# Altium schematic symbol library Power_Management.SchLib: 221 symbols (part 2 of 2)
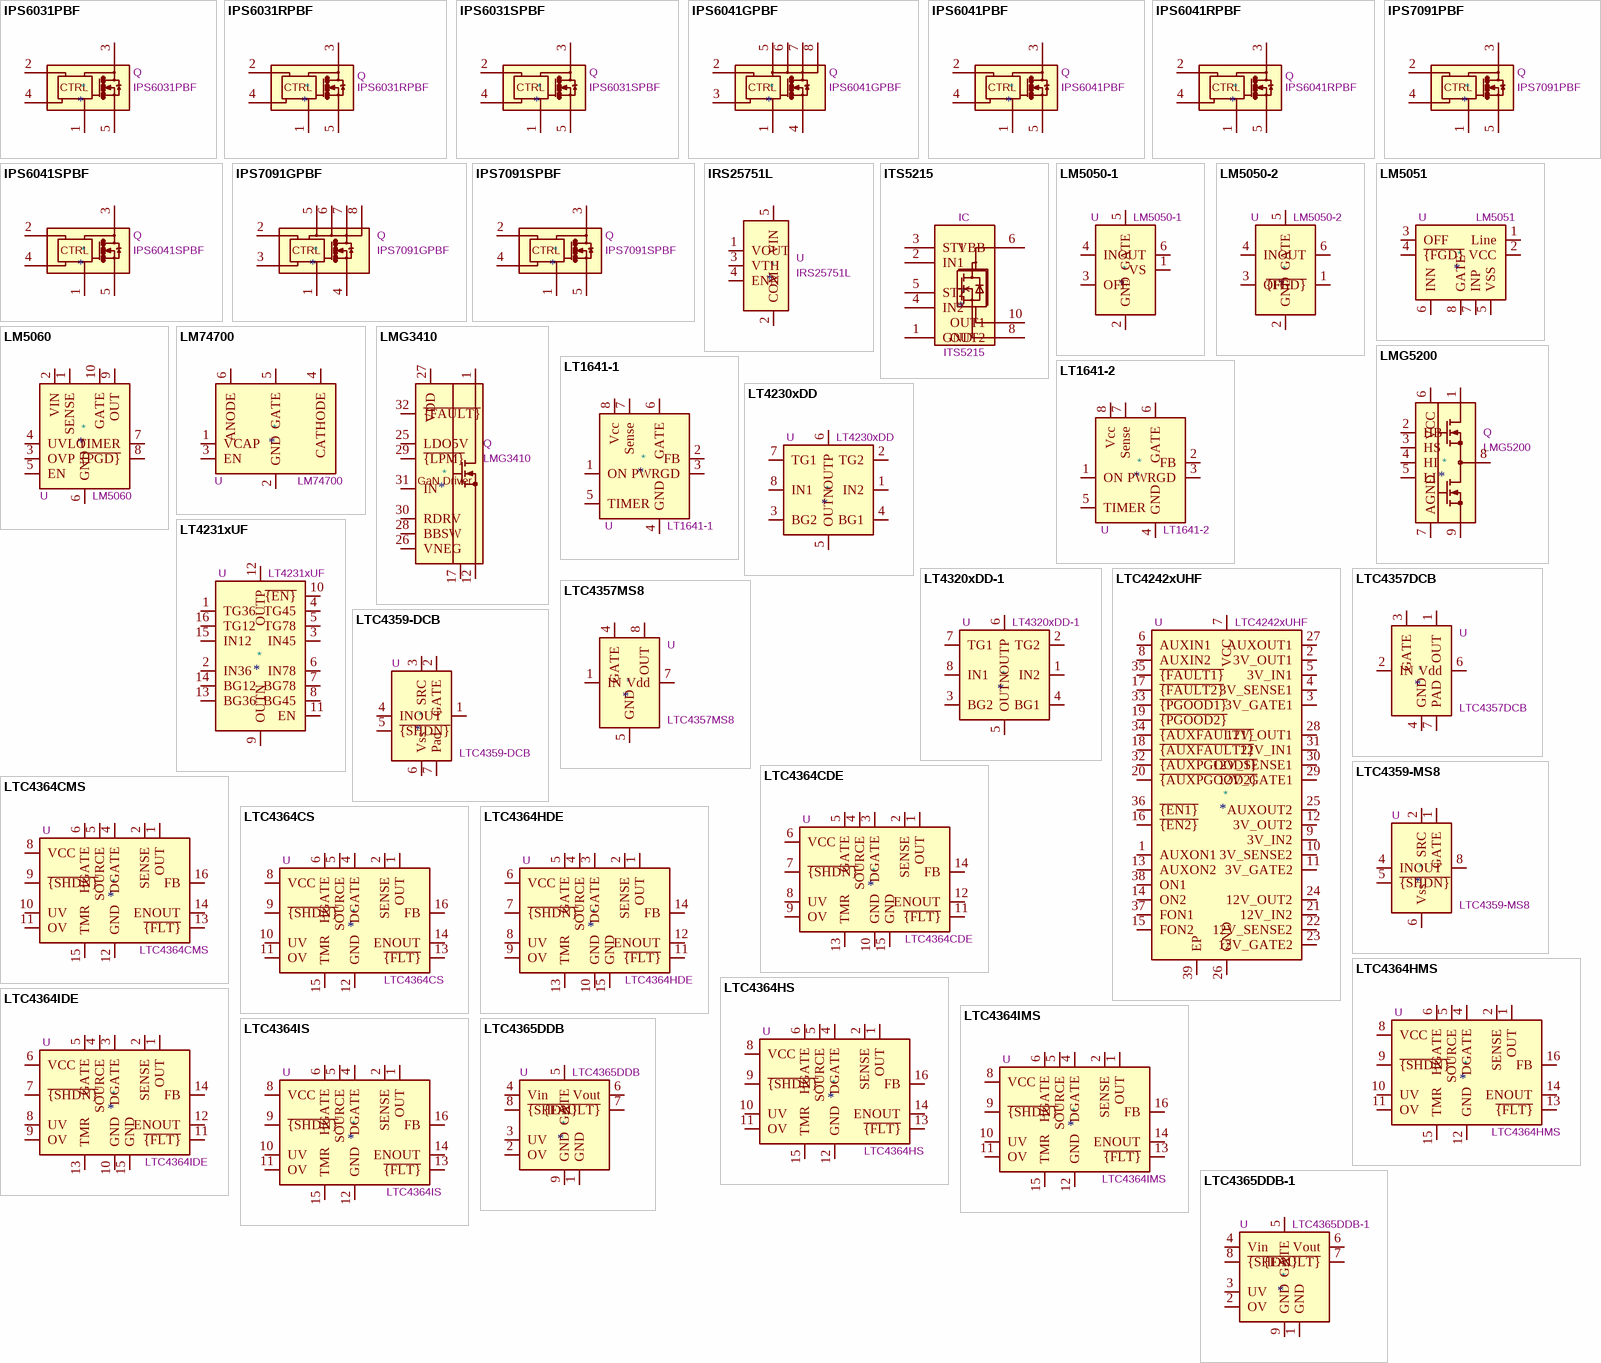
[diagram p6: symbols IPS6031PBF to LTC4365DDB-1]

## IPS7091PBF
designator *  value IPS7091PBF  Reference: Q
ki_keywords: Intelligent Power Switch High Side MOSFET; ki_description: 70V, 5A, Intelligent Power Switch High Side, TO-220-5; ki_fp_filters: TO?220*; Footprint: Package_TO_SOT_THT:TO-220-5_Vertical; Datasheet: http://www.irf.com/product-info/datasheets/data/ips7091.pdf
pins: 1 GND, 2 IN, 3 VCC, 4 DG, 5 OUT
text: CTRL

## IPS7091SPBF
designator *  value IPS7091SPBF  Reference: Q
ki_keywords: Intelligent Power Switch High Side MOSFET; ki_description: 70V, 5A, Intelligent Power Switch High Side, D2-PAK 5pin; ki_fp_filters: TO?263*; Footprint: Package_TO_SOT_SMD:TO-263-5_TabPin3; Datasheet: http://www.irf.com/product-info/datasheets/data/ips7091.pdf
pins: 1 GND, 2 IN, 3 VCC, 4 DG, 5 OUT
text: CTRL

## IRS25751L
designator *  value IRS25751L  Reference: U
ki_keywords: start up; ki_description: High-Voltage Start-Up IC, 480V, SOT-23-5; ki_fp_filters: SOT?23*; Footprint: Package_TO_SOT_SMD:SOT-23-5; Datasheet: https://www.infineon.com/dgdl/irs25751lpbf.pdf?fileId=5546d462533600a40153567b31da2837
pins: 1 VOUT, 2 COM, 3 VTH, 4 ENN, 5 VIN

## ITS5215
designator *  value ITS5215  Reference: IC
ki_keywords: High_Side_Switch Power; ki_description: Smart Dual Channel High Side Powertrain Switch (90mOhm); ki_fp_filters: *PG?DSO*; Footprint: Package_SO:Infineon_PG-DSO-12-9_ThermalVias; Datasheet: http://www.infineon.com/dgdl/Infineon-ITS5215L-DS-v01_01-en.pdf?fileId=db3a304412b407950112b428dba73e98
pins: 1 GND, 2 IN1, 3 ST1, 4 IN2, 5 ST2, 6 VBB, 7 NC hidden, 8 OUT2, 9 NC hidden, 10 OUT1, 11 NC hidden, 12 VBB hidden, 13 VBB hidden

## LM5050-1
designator *  value LM5050-1  Reference: U
ki_keywords: positive high-side or-ing ideal-diode; ki_description: High side OR-ing FET controller, 5V to 75V operation, TSOT-23-6; ki_fp_filters: TSOT?23*; Footprint: Package_TO_SOT_SMD:TSOT-23-6; Datasheet: http://www.ti.com/lit/ds/symlink/lm5050-1-q1.pdf
pins: 1 VS, 2 GND, 3 OFF, 4 IN, 5 GATE, 6 OUT

## LM5050-2
designator *  value LM5050-2  Reference: U
ki_keywords: positive high-side or-ing ideal-diode; ki_description: High side OR-ing FET controller, 6V to 75V operation, TSOT-23-6; ki_fp_filters: TSOT?23*; Footprint: Package_TO_SOT_SMD:TSOT-23-6; Datasheet: http://www.ti.com/lit/ds/symlink/lm5050-2.pdf
pins: 1 ~{{FGD}}, 2 GND, 3 OFF, 4 IN, 5 GATE, 6 OUT

## LM5051
designator *  value LM5051  Reference: U
ki_keywords: negative low-side or-ing ideal-diode; ki_description: Low side OR-ing FET controller, -6V to -100V, SOIC-8; ki_fp_filters: SOIC*3.9x4.9mm*P1.27mm*; Footprint: Package_SO:SOIC-8_3.9x4.9mm_P1.27mm; Datasheet: http://www.ti.com/lit/ds/symlink/lm5051.pdf
pins: 1 Line, 2 VCC, 3 OFF, 4 ~{{FGD}}, 5 VSS, 6 INN, 7 INP, 8 GATE

## LM5060
designator *  value LM5060  Reference: U
ki_keywords: high-voltage mosfet-driver hot-swap; ki_description: High side protection controller, +5.5V to +65V operation, VSSOP-10 package; ki_fp_filters: *SOP*3x3mm*P0.5mm*; Footprint: Package_SO:MSOP-10_3x3mm_P0.5mm; Datasheet: http://www.ti.com/lit/ds/symlink/lm5060.pdf
pins: 1 SENSE, 2 VIN, 3 OVP, 4 UVLO, 5 EN, 6 GND, 7 TIMER, 8 ~{{PGD}}, 9 OUT, 10 GATE

## LM74700
designator *  value LM74700  Reference: U
ki_keywords: ideal-diode or-ing; ki_description: Low Iq reverse battery protection ideal diode controller, SOT-23-6; ki_fp_filters: SOT?23*; Footprint: Package_TO_SOT_SMD:SOT-23-6; Datasheet: http://www.ti.com/lit/gpn/LM74700-Q1
pins: 1 VCAP, 2 GND, 3 EN, 4 CATHODE, 5 GATE, 6 ANODE

## LMG3410
designator *  value LMG3410  Reference: Q
ki_keywords: N-Channel GaN MOSFET; ki_description: 600-V 12-A Integrated GaN Power Stage, RWH0032A; ki_fp_filters: Texas*RWH0032A*; Footprint: Package_DFN_QFN:Texas_RWH0032A_ThermalVias; Datasheet: http://www.ti.com/lit/ds/snosd10c/snosd10c.pdf
pins: 1, 2 hidden, 3 hidden, 4 hidden, 5 hidden, 6 hidden, 7 hidden, 8 hidden, 9 hidden, 10 hidden, 11 hidden, 12, 13 hidden, 14 hidden, 15 hidden, 16 hidden, 17, 18 hidden, 19 hidden, 20 hidden, 21 hidden, 22 hidden, 23 hidden, 24 hidden, 25 LDO5V, 26 VNEG, 27 VDD, 28 BBSW, 29 ~{{LPM}}, 30 RDRV, 31 IN, 32 ~{{FAULT}}, 33 hidden
text: GaN Driver

## LMG5200
designator *  value LMG5200  Reference: Q
ki_keywords: Dual N-Channel GaN MOSFET; ki_description: 80-V, 10-A GaN Half-Bridge Power Stage, MOF0009A; ki_fp_filters: Texas*MOF0009A*; Footprint: Package_DFN_QFN:Texas_MOF0009A; Datasheet: http://www.ti.com/lit/ds/symlink/lmg5200.pdf
pins: 1, 2 HB, 3 HS, 4 HI, 5 LI, 6 VCC, 7 AGND, 8, 9

## LT1641-1
designator *  value LT1641-1  Reference: U
ki_keywords: high-voltage hot-swap; ki_description: High voltage hot swap controller, +9V to +80V, with latching feature, SOIC-8; ki_fp_filters: SOIC*3.9x4.9mm*P1.27mm*; Footprint: Package_SO:SOIC-8_3.9x4.9mm_P1.27mm; Datasheet: https://www.analog.com/media/en/technical-documentation/data-sheets/164112fc.pdf
pins: 1 ON, 2 FB, 3 PWRGD, 4 GND, 5 TIMER, 6 GATE, 7 Sense, 8 Vcc

## LT1641-2
designator *  value LT1641-2  Reference: U
ki_keywords: high-voltage hot-swap; ki_description: High voltage hot swap controller, +9V to +80V operation, with auto-retry feature; ki_fp_filters: SOIC*3.9x4.9mm*P1.27mm*; Footprint: Package_SO:SOIC-8_3.9x4.9mm_P1.27mm; Datasheet: https://www.analog.com/media/en/technical-documentation/data-sheets/164112fc.pdf
pins: 1 ON, 2 FB, 3 PWRGD, 4 GND, 5 TIMER, 6 GATE, 7 Sense, 8 Vcc

## LT4230xDD
designator *  value LT4230xDD  Reference: U
ki_keywords: diode bridge replacement; ki_description: Ideal Diode Bridge Controller, DC to 60Hz, DFN-8; ki_fp_filters: DFN*1EP*3x3mm*P0.5mm*; Footprint: Package_DFN_QFN:DFN-8-1EP_3x3mm_P0.5mm_EP1.65x2.38mm; Datasheet: https://www.analog.com/media/en/technical-documentation/data-sheets/4320fb.pdf
pins: 1 IN2, 2 TG2, 3 BG2, 4 BG1, 5 OUTN, 6 OUTP, 7 TG1, 8 IN1, 9 OUTN hidden

## LT4231xUF
designator *  value LT4231xUF  Reference: U
ki_keywords: LTPoE++ dual diode bridge replacement; ki_description: PoE Ideal Diode Bridge Controller, QFN-16; ki_fp_filters: QFN*1EP*4x4mm*P0.65mm*; Footprint: Package_DFN_QFN:QFN-16-1EP_4x4mm_P0.65mm_EP2.15x2.15mm; Datasheet: https://www.analog.com/media/en/technical-documentation/data-sheets/4321f.pdf
pins: 1 TG36, 2 IN36, 3 IN45, 4 TG45, 5 TG78, 6 IN78, 7 BG78, 8 BG45, 9 OUTN, 10 ~{{EN}}, 11 EN, 12 OUTP, 13 BG36, 14 BG12, 15 IN12, 16 TG12, 17 OUTN hidden

## LT4320xDD-1
designator *  value LT4320xDD-1  Reference: U
ki_keywords: diode bridge replacement; ki_description: Ideal Diode Bridge Controller, DC to 600Hz, DFN-8; ki_fp_filters: DFN*1EP*3x3mm*P0.5mm*; Footprint: Package_DFN_QFN:DFN-8-1EP_3x3mm_P0.5mm_EP1.65x2.38mm; Datasheet: https://www.analog.com/media/en/technical-documentation/data-sheets/4320fb.pdf
pins: 1 IN2, 2 TG2, 3 BG2, 4 BG1, 5 OUTN, 6 OUTP, 7 TG1, 8 IN1, 9 OUTN hidden

## LTC4242xUHF
designator *  value LTC4242xUHF  Reference: U
ki_keywords: Dual-Slot PCIe; ki_description: Hot-Swap Power Controller, QFN-38; ki_fp_filters: QFN*1EP*5x7mm*P0.5mm*; Footprint: Package_DFN_QFN:QFN-38-1EP_5x7mm_P0.5mm_EP3.15x5.15mm; Datasheet: https://www.analog.com/media/en/technical-documentation/data-sheets/4242f.pdf
pins: 1 AUXON1, 2 3V_OUT1, 3 3V_GATE1, 4 3V_SENSE1, 5 3V_IN1, 6 AUXIN1, 7 VCC, 8 AUXIN2, 9 3V_IN2, 10 3V_SENSE2, 11 3V_GATE2, 12 3V_OUT2, 13 AUXON2, 14 ON2, 15 FON2, 16 ~{{EN2}}, 17 ~{{FAULT2}}, 18 ~{{AUXFAULT2}}, 19 ~{{PGOOD2}}, 20 ~{{AUXPGOOD2}}, 21 12V_IN2, 22 12V_SENSE2, 23 12V_GATE2, 24 12V_OUT2, 25 AUXOUT2, 26 GND, 27 AUXOUT1, 28 12V_OUT1, 29 12V_GATE1, 30 12V_SENSE1, 31 12V_IN1, 32 ~{{AUXPGOOD1}}, 33 ~{{PGOOD1}}, 34 ~{{AUXFAULT1}}, 35 ~{{FAULT1}}, 36 ~{{EN1}}, 37 FON1, 38 ON1, 39 EP

## LTC4357DCB
designator *  value LTC4357DCB  Reference: U
ki_keywords: ideal-diode or-ing; ki_description: Ideal diode controller, 9-80V operation, DFN-6; ki_fp_filters: DFN*1EP*3x2mm*P0.5mm*; Footprint: Package_DFN_QFN:DFN-6-1EP_3x2mm_P0.5mm_EP1.65x1.35mm; Datasheet: https://www.analog.com/media/en/technical-documentation/data-sheets/4357fd.pdf
pins: 1 OUT, 2 IN, 3 GATE, 4 GND, 5 NC hidden, 6 Vdd, 7 PAD

## LTC4357MS8
designator *  value LTC4357MS8  Reference: U
ki_keywords: ideal-diode or-ing; ki_description: Ideal diode controller, 9-80V operation, MSOP-8; ki_fp_filters: MSOP*3x3mm*P0.65mm*; Footprint: Package_SO:MSOP-8_3x3mm_P0.65mm; Datasheet: https://www.analog.com/media/en/technical-documentation/data-sheets/4357fd.pdf
pins: 1 IN, 2 NC hidden, 3 NC hidden, 4 GATE, 5 GND, 6 NC hidden, 7 Vdd, 8 OUT

## LTC4359-DCB
designator *  value LTC4359-DCB  Reference: U
ki_keywords: ideal-diode or-ing reverse-protection; ki_description: Ideal diode controller with reverse input protection, DFN-6; ki_fp_filters: DFN*1EP*3x2mm*P0.5mm*; Footprint: Package_DFN_QFN:DFN-6-1EP_3x2mm_P0.5mm_EP1.65x1.35mm; Datasheet: https://www.analog.com/media/en/technical-documentation/data-sheets/ltc4359.pdf
pins: 1 OUT, 2 GATE, 3 SRC, 4 IN, 5 ~{{SHDN}}, 6 Vss, 7 Pad

## LTC4359-MS8
designator *  value LTC4359-MS8  Reference: U
ki_keywords: ideal-diode or-ing reverse-protection; ki_description: Ideal diode controller with reverse input protection, MSOP-8; ki_fp_filters: MSOP*3x3mm*P0.65mm*; Footprint: Package_SO:MSOP-8_3x3mm_P0.65mm; Datasheet: https://www.analog.com/media/en/technical-documentation/data-sheets/ltc4359.pdf
pins: 1 GATE, 2 SRC, 3 NC hidden, 4 IN, 5 ~{{SHDN}}, 6 Vss, 7 NC hidden, 8 OUT

## LTC4364CDE
designator *  value LTC4364CDE  Reference: U
ki_keywords: ideal-diode or-ing reverse-protection undervoltage overvoltage surge-stopper; ki_description: Surge stopper with ideal diode, UV and OV protection, -40V to +80V, 0°C to +40°C, DFN-14; ki_fp_filters: DFN*3x4mm*P0.5mm*; Footprint: Package_DFN_QFN:DFN-14-1EP_3x4mm_P0.5mm_EP1.7x3.3mm; Datasheet: https://www.analog.com/media/en/technical-documentation/data-sheets/436412f.pdf
pins: 1 OUT, 2 SENSE, 3 DGATE, 4 SOURCE, 5 GATE, 6 VCC, 7 ~{{SHDN}}, 8 UV, 9 OV, 10 GND, 11 ~{{FLT}}, 12 ENOUT, 13 TMR, 14 FB, 15 GND

## LTC4364CMS
designator *  value LTC4364CMS  Reference: U
ki_keywords: ideal-diode or-ing reverse-protection undervoltage overvoltage surge-stopper; ki_description: Surge stopper with ideal diode, UV and OV protection, -40V to +80V, 0°C to +40°C, MSOP-16; ki_fp_filters: MSOP*3x4mm*P0.5mm*; Footprint: Package_SO:MSOP-16_3x4mm_P0.5mm; Datasheet: https://www.analog.com/media/en/technical-documentation/data-sheets/436412f.pdf
pins: 1 OUT, 2 SENSE, 3 NC hidden, 4 DGATE, 5 SOURCE, 6 HGATE, 7 NC hidden, 8 VCC, 9 ~{{SHDN}}, 10 UV, 11 OV, 12 GND, 13 ~{{FLT}}, 14 ENOUT, 15 TMR, 16 FB

## LTC4364CS
designator *  value LTC4364CS  Reference: U
ki_keywords: ideal-diode or-ing reverse-protection undervoltage overvoltage surge-stopper; ki_description: Surge stopper with ideal diode, UV and OV protection -40V to +80V, 0°C to +40°C, SOIC-16; ki_fp_filters: SOIC*3.9x9.9mm*P1.27mm*; Footprint: Package_SO:SOIC-16_3.9x9.9mm_P1.27mm; Datasheet: https://www.analog.com/media/en/technical-documentation/data-sheets/436412f.pdf
pins: 1 OUT, 2 SENSE, 3 NC hidden, 4 DGATE, 5 SOURCE, 6 HGATE, 7 NC hidden, 8 VCC, 9 ~{{SHDN}}, 10 UV, 11 OV, 12 GND, 13 ~{{FLT}}, 14 ENOUT, 15 TMR, 16 FB

## LTC4364HDE
designator *  value LTC4364HDE  Reference: U
ki_keywords: surge overvoltage undervoltage reverse-polarity protection diode ORing MOSFET driver; ki_description: Surge stopper with ideal diode, UV and OV protection -40V to +80V, -40°C to +125°C, DFN-14; ki_fp_filters: DFN*3x4mm*P0.5mm*; Footprint: Package_DFN_QFN:DFN-14-1EP_3x4mm_P0.5mm_EP1.7x3.3mm; Datasheet: https://www.analog.com/media/en/technical-documentation/data-sheets/436412f.pdf
pins: 1 OUT, 2 SENSE, 3 DGATE, 4 SOURCE, 5 GATE, 6 VCC, 7 ~{{SHDN}}, 8 UV, 9 OV, 10 GND, 11 ~{{FLT}}, 12 ENOUT, 13 TMR, 14 FB, 15 GND

## LTC4364HMS
designator *  value LTC4364HMS  Reference: U
ki_keywords: surge overvoltage undervoltage reverse-polarity protection diode ORing MOSFET driver; ki_description: Surge stopper with ideal diode, UV and OV protection -40V to +80V, -40°C to +125°C, MSOP-16; ki_fp_filters: MSOP*3x4mm*P0.5mm*; Footprint: Package_SO:MSOP-16_3x4mm_P0.5mm; Datasheet: https://www.analog.com/media/en/technical-documentation/data-sheets/436412f.pdf
pins: 1 OUT, 2 SENSE, 3 NC hidden, 4 DGATE, 5 SOURCE, 6 HGATE, 7 NC hidden, 8 VCC, 9 ~{{SHDN}}, 10 UV, 11 OV, 12 GND, 13 ~{{FLT}}, 14 ENOUT, 15 TMR, 16 FB

## LTC4364HS
designator *  value LTC4364HS  Reference: U
ki_keywords: surge overvoltage undervoltage reverse-polarity protection diode ORing MOSFET driver; ki_description: Surge stopper with ideal diode, UV and OV protection -40V to +80V, -40°C to +125°C, SOIC-16; ki_fp_filters: SOIC*3.9x9.9mm*P1.27mm*; Footprint: Package_SO:SOIC-16_3.9x9.9mm_P1.27mm; Datasheet: https://www.analog.com/media/en/technical-documentation/data-sheets/436412f.pdf
pins: 1 OUT, 2 SENSE, 3 NC hidden, 4 DGATE, 5 SOURCE, 6 HGATE, 7 NC hidden, 8 VCC, 9 ~{{SHDN}}, 10 UV, 11 OV, 12 GND, 13 ~{{FLT}}, 14 ENOUT, 15 TMR, 16 FB

## LTC4364IDE
designator *  value LTC4364IDE  Reference: U
ki_keywords: surge overvoltage undervoltage reverse-polarity protection diode ORing MOSFET driver; ki_description: Surge stopper with ideal diode, UV and OV protection -40V to +80V, -40°C to +85°C, DFN-14; ki_fp_filters: DFN*3x4mm*P0.5mm*; Footprint: Package_DFN_QFN:DFN-14-1EP_3x4mm_P0.5mm_EP1.7x3.3mm; Datasheet: https://www.analog.com/media/en/technical-documentation/data-sheets/436412f.pdf
pins: 1 OUT, 2 SENSE, 3 DGATE, 4 SOURCE, 5 GATE, 6 VCC, 7 ~{{SHDN}}, 8 UV, 9 OV, 10 GND, 11 ~{{FLT}}, 12 ENOUT, 13 TMR, 14 FB, 15 GND

## LTC4364IMS
designator *  value LTC4364IMS  Reference: U
ki_keywords: surge overvoltage undervoltage reverse-polarity protection diode ORing MOSFET driver; ki_description: Surge stopper with ideal diode, UV and OV protection -40V to +80V, -40°C to +85°C, MSOP-16; ki_fp_filters: MSOP*3x4mm*P0.5mm*; Footprint: Package_SO:MSOP-16_3x4mm_P0.5mm; Datasheet: https://www.analog.com/media/en/technical-documentation/data-sheets/436412f.pdf
pins: 1 OUT, 2 SENSE, 3 NC hidden, 4 DGATE, 5 SOURCE, 6 HGATE, 7 NC hidden, 8 VCC, 9 ~{{SHDN}}, 10 UV, 11 OV, 12 GND, 13 ~{{FLT}}, 14 ENOUT, 15 TMR, 16 FB

## LTC4364IS
designator *  value LTC4364IS  Reference: U
ki_keywords: surge overvoltage undervoltage reverse-polarity protection diode ORing MOSFET driver; ki_description: Surge stopper with ideal diode, UV and OV protection -40V to +80V, -40°C to +85°C, SOIC-16; ki_fp_filters: SOIC*3.9x9.9mm*P1.27mm*; Footprint: Package_SO:SOIC-16_3.9x9.9mm_P1.27mm; Datasheet: https://www.analog.com/media/en/technical-documentation/data-sheets/436412f.pdf
pins: 1 OUT, 2 SENSE, 3 NC hidden, 4 DGATE, 5 SOURCE, 6 HGATE, 7 NC hidden, 8 VCC, 9 ~{{SHDN}}, 10 UV, 11 OV, 12 GND, 13 ~{{FLT}}, 14 ENOUT, 15 TMR, 16 FB

## LTC4365DDB
designator *  value LTC4365DDB  Reference: U
ki_keywords: overvoltage undervoltage reverse-polarity protection; ki_description: UV, OV and Reverse Supply Protection Controller, 50/60Hz noise rejection, DFN-8; ki_fp_filters: DFN*1EP*2x3mm*P0.5mm*; Footprint: Package_DFN_QFN:DFN-8-1EP_2x3mm_P0.5mm_EP0.61x2.2mm; Datasheet: https://www.analog.com/media/en/technical-documentation/data-sheets/4365fa.pdf
pins: 1 GND, 2 OV, 3 UV, 4 Vin, 5 GATE, 6 Vout, 7 ~{{FAULT}}, 8 ~{{SHDN}}, 9 GND

## LTC4365DDB-1
designator *  value LTC4365DDB-1  Reference: U
ki_keywords: overvoltage undervoltage reverse-polarity protection; ki_description: UV, OV and Reverse Supply Protection Controller, 1ms fault recovery, DFN-8; ki_fp_filters: DFN*1EP*2x3mm*P0.5mm*; Footprint: Package_DFN_QFN:DFN-8-1EP_2x3mm_P0.5mm_EP0.61x2.2mm; Datasheet: https://www.analog.com/media/en/technical-documentation/data-sheets/4365fa.pdf
pins: 1 GND, 2 OV, 3 UV, 4 Vin, 5 GATE, 6 Vout, 7 ~{{FAULT}}, 8 ~{{SHDN}}, 9 GND

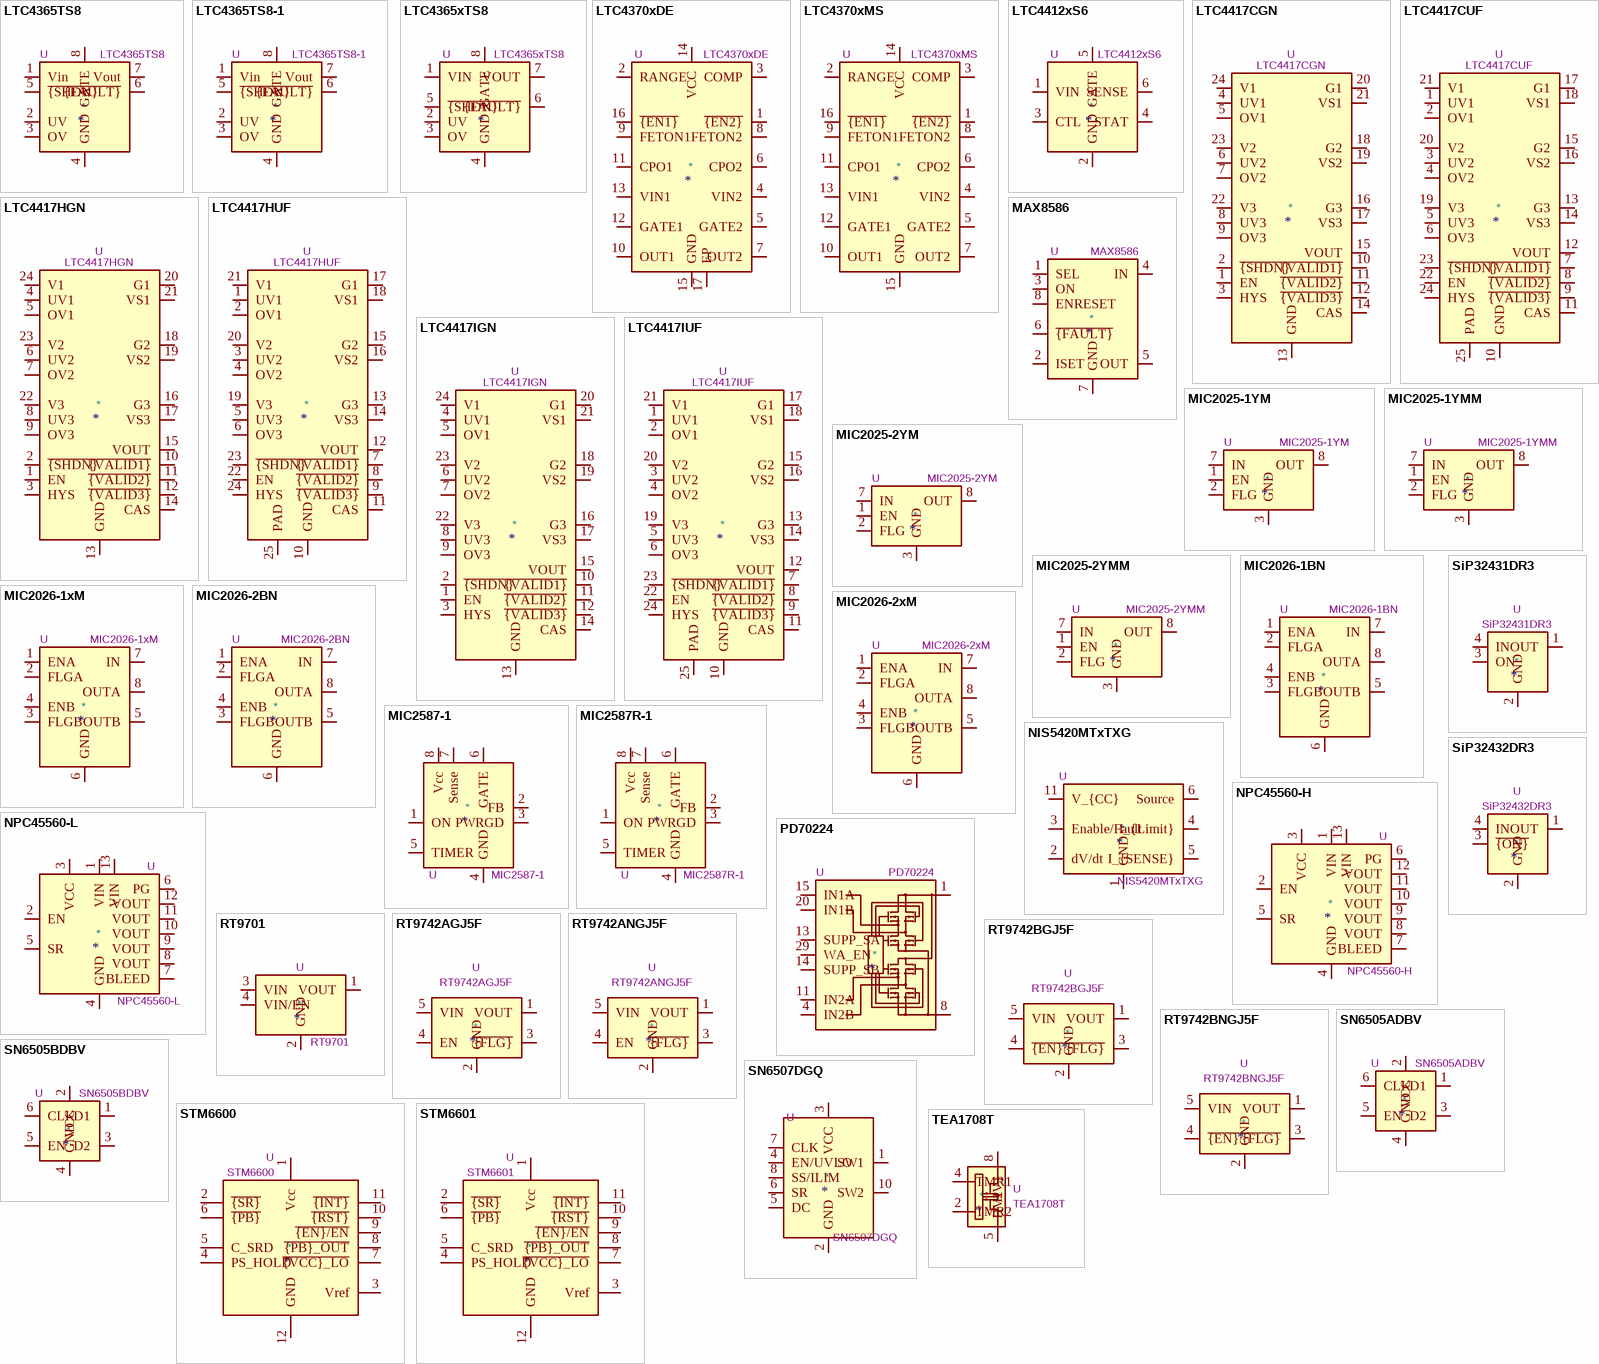
[diagram p4: symbols LTC4365TS8 to TEA1708T]

## LTC4365TS8
designator *  value LTC4365TS8  Reference: U
ki_keywords: overvoltage undervoltage reverse-polarity protection; ki_description: UV, OV and Reverse Supply Protection Controller, 50/60Hz noise rejection, TSOT23-8; ki_fp_filters: TSOT?23*; Footprint: Package_TO_SOT_SMD:TSOT-23-8; Datasheet: https://www.analog.com/media/en/technical-documentation/data-sheets/4365fa.pdf
pins: 1 Vin, 2 UV, 3 OV, 4 GND, 5 ~{{SHDN}}, 6 ~{{FAULT}}, 7 Vout, 8 GATE

## LTC4365TS8-1
designator *  value LTC4365TS8-1  Reference: U
ki_keywords: overvoltage undervoltage reverse-polarity protection; ki_description: UV, OV and Reverse Supply Protection Controller, 1ms fault recovery, TSOT23-8; ki_fp_filters: *SOT?23*; Footprint: Package_TO_SOT_SMD:TSOT-23-8; Datasheet: https://www.analog.com/media/en/technical-documentation/data-sheets/4365fa.pdf
pins: 1 Vin, 2 UV, 3 OV, 4 GND, 5 ~{{SHDN}}, 6 ~{{FAULT}}, 7 Vout, 8 GATE

## LTC4365xTS8
designator *  value LTC4365xTS8  Reference: U
ki_keywords: overvoltage undervoltage reverse-polarity protection; ki_description: UV, OV and Reverse Supply Protection Controller, 50Hz/60Hz noise rejection, TSOT-23-8; ki_fp_filters: TSOT?23*; Footprint: Package_TO_SOT_SMD:TSOT-23-8; Datasheet: https://www.analog.com/media/en/technical-documentation/data-sheets/4365fa.pdf
pins: 1 VIN, 2 UV, 3 OV, 4 GND, 5 ~{{SHDN}}, 6 ~{{FAULT}}, 7 VOUT, 8 GATE

## LTC4370xDE
designator *  value LTC4370xDE  Reference: U
ki_keywords: ideal-diode or-ing current sharing load balancing; ki_description: OR Controller Current Sharing Controller N-Channel 2:1, DFN-16; ki_fp_filters: DFN*1EP*3x4mm*P0.45mm*; Footprint: Package_DFN_QFN:DFN-16-1EP_3x4mm_P0.45mm_EP1.7x3.3mm; Datasheet: https://www.analog.com/media/en/technical-documentation/data-sheets/4370f.pdf
pins: 1 ~{{EN2}}, 2 RANGE, 3 COMP, 4 VIN2, 5 GATE2, 6 CPO2, 7 OUT2, 8 FETON2, 9 FETON1, 10 OUT1, 11 CPO1, 12 GATE1, 13 VIN1, 14 VCC, 15 GND, 16 ~{{EN1}}, 17 EP

## LTC4370xMS
designator *  value LTC4370xMS  Reference: U
ki_keywords: ideal-diode or-ing current sharing load balancing; ki_description: OR Controller Current Sharing Controller N-Channel 2:1, MSOP-16; ki_fp_filters: MSOP*3x4mm*P0.5mm*; Footprint: Package_SO:MSOP-16_3x4mm_P0.5mm; Datasheet: https://www.analog.com/media/en/technical-documentation/data-sheets/4370f.pdf
pins: 1 ~{{EN2}}, 2 RANGE, 3 COMP, 4 VIN2, 5 GATE2, 6 CPO2, 7 OUT2, 8 FETON2, 9 FETON1, 10 OUT1, 11 CPO1, 12 GATE1, 13 VIN1, 14 VCC, 15 GND, 16 ~{{EN1}}

## LTC4412xS6
designator *  value LTC4412xS6  Reference: U
ki_keywords: ideal-diode or-ing; ki_description: Low Loss PowerPath Controller, TSOT-23-6; ki_fp_filters: TSOT?23*; Footprint: Package_TO_SOT_SMD:TSOT-23-6; Datasheet: https://www.analog.com/media/en/technical-documentation/data-sheets/4412fb.pdf
pins: 1 VIN, 2 GND, 3 CTL, 4 STAT, 5 GATE, 6 SENSE

## LTC4417CGN
designator *  value LTC4417CGN  Reference: U
ki_keywords: switch power FET sequence; ki_description: Prioritized PowerPath Controller, Selects Highest Priority Supply from Three Inputs, SSOP; ki_fp_filters: SSOP-24*3.9x8.7mm*P0.635mm*; Footprint: Package_SO:SSOP-24_3.9x8.7mm_P0.635mm; Datasheet: https://www.analog.com/media/en/technical-documentation/data-sheets/4417f.pdf
pins: 1 EN, 2 ~{{SHDN}}, 3 HYS, 4 UV1, 5 OV1, 6 UV2, 7 OV2, 8 UV3, 9 OV3, 10 ~{{VALID1}}, 11 ~{{VALID2}}, 12 ~{{VALID3}}, 13 GND, 14 CAS, 15 VOUT, 16 G3, 17 VS3, 18 G2, 19 VS2, 20 G1, 21 VS1, 22 V3, 23 V2, 24 V1

## LTC4417CUF
designator *  value LTC4417CUF  Reference: U
ki_keywords: switch power FET sequence; ki_description: Prioritized PowerPath Controller, Selects Highest Priority Supply from Three Inputs, QFN; ki_fp_filters: QFN*4x4mm*P0.5mm*; Footprint: Package_DFN_QFN:QFN-24-1EP_4x4mm_P0.5mm_EP2.6x2.6mm; Datasheet: https://www.analog.com/media/en/technical-documentation/data-sheets/4417f.pdf
pins: 1 UV1, 2 OV1, 3 UV2, 4 OV2, 5 UV3, 6 OV3, 7 ~{{VALID1}}, 8 ~{{VALID2}}, 9 ~{{VALID3}}, 10 GND, 11 CAS, 12 VOUT, 13 G3, 14 VS3, 15 G2, 16 VS2, 17 G1, 18 VS1, 19 V3, 20 V2, 21 V1, 22 EN, 23 ~{{SHDN}}, 24 HYS, 25 PAD

## LTC4417HGN
designator *  value LTC4417HGN  Reference: U
ki_keywords: switch power FET sequence; ki_description: Prioritized PowerPath Controller, Selects Highest Priority Supply from Three Inputs, –40°C to 125°C, SSOP; ki_fp_filters: SSOP-24*3.9x8.7mm*P0.635mm*; Footprint: Package_SO:SSOP-24_3.9x8.7mm_P0.635mm; Datasheet: https://www.analog.com/media/en/technical-documentation/data-sheets/4417f.pdf
pins: 1 EN, 2 ~{{SHDN}}, 3 HYS, 4 UV1, 5 OV1, 6 UV2, 7 OV2, 8 UV3, 9 OV3, 10 ~{{VALID1}}, 11 ~{{VALID2}}, 12 ~{{VALID3}}, 13 GND, 14 CAS, 15 VOUT, 16 G3, 17 VS3, 18 G2, 19 VS2, 20 G1, 21 VS1, 22 V3, 23 V2, 24 V1

## LTC4417HUF
designator *  value LTC4417HUF  Reference: U
ki_keywords: switch power FET sequence; ki_description: Prioritized PowerPath Controller, Selects Highest Priority Supply from Three Inputs, –40°C to 125°C, QFN; ki_fp_filters: QFN*4x4mm*P0.5mm*; Footprint: Package_DFN_QFN:QFN-24-1EP_4x4mm_P0.5mm_EP2.6x2.6mm; Datasheet: https://www.analog.com/media/en/technical-documentation/data-sheets/4417f.pdf
pins: 1 UV1, 2 OV1, 3 UV2, 4 OV2, 5 UV3, 6 OV3, 7 ~{{VALID1}}, 8 ~{{VALID2}}, 9 ~{{VALID3}}, 10 GND, 11 CAS, 12 VOUT, 13 G3, 14 VS3, 15 G2, 16 VS2, 17 G1, 18 VS1, 19 V3, 20 V2, 21 V1, 22 EN, 23 ~{{SHDN}}, 24 HYS, 25 PAD

## LTC4417IGN
designator *  value LTC4417IGN  Reference: U
ki_keywords: switch power FET sequence; ki_description: Prioritized PowerPath Controller, Selects Highest Priority Supply from Three Inputs, –40°C to 85°C, SSOP; ki_fp_filters: SSOP-24*3.9x8.7mm*P0.635mm*; Footprint: Package_SO:SSOP-24_3.9x8.7mm_P0.635mm; Datasheet: https://www.analog.com/media/en/technical-documentation/data-sheets/4417f.pdf
pins: 1 EN, 2 ~{{SHDN}}, 3 HYS, 4 UV1, 5 OV1, 6 UV2, 7 OV2, 8 UV3, 9 OV3, 10 ~{{VALID1}}, 11 ~{{VALID2}}, 12 ~{{VALID3}}, 13 GND, 14 CAS, 15 VOUT, 16 G3, 17 VS3, 18 G2, 19 VS2, 20 G1, 21 VS1, 22 V3, 23 V2, 24 V1

## LTC4417IUF
designator *  value LTC4417IUF  Reference: U
ki_keywords: switch power FET sequence; ki_description: Prioritized PowerPath Controller, Selects Highest Priority Supply from Three Inputs, –40°C to 85°C, QFN; ki_fp_filters: QFN*4x4mm*P0.5mm*; Footprint: Package_DFN_QFN:QFN-24-1EP_4x4mm_P0.5mm_EP2.6x2.6mm; Datasheet: https://www.analog.com/media/en/technical-documentation/data-sheets/4417f.pdf
pins: 1 UV1, 2 OV1, 3 UV2, 4 OV2, 5 UV3, 6 OV3, 7 ~{{VALID1}}, 8 ~{{VALID2}}, 9 ~{{VALID3}}, 10 GND, 11 CAS, 12 VOUT, 13 G3, 14 VS3, 15 G2, 16 VS2, 17 G1, 18 VS1, 19 V3, 20 V2, 21 V1, 22 EN, 23 ~{{SHDN}}, 24 HYS, 25 PAD

## MAX8586
designator *  value MAX8586  Reference: U
ki_keywords: 1-channel USB current limiting power switch; ki_description: Single 1.2A USB Current Limiting Switch; ki_fp_filters: DFN?8?1EP*3x3mm*P0.65mm*EP1.55x2.4mm*; Footprint: Package_DFN_QFN:DFN-8-1EP_3x3mm_P0.65mm_EP1.55x2.4mm; Datasheet: https://datasheets.maximintegrated.com/en/ds/MAX8586.pdf
pins: 1 SEL, 2 ISET, 3 ON, 4 IN, 5 OUT, 6 ~{{FAULT}}, 7 GND, 8 ENRESET, 9 GND hidden

## MIC2025-1YM
designator *  value MIC2025-1YM  Reference: U
ki_keywords: mosfet distribution; ki_description: Single-channel, high side, power distribution switch, 2.7V-5.5V, Active High Output, SOIC-8; ki_fp_filters: SOIC*3.9x4.9mm*P1.27mm*; Footprint: Package_SO:SOIC-8_3.9x4.9mm_P1.27mm; Datasheet: https://ww1.microchip.com/downloads/en/DeviceDoc/MIC2025-2075-Single-Channel-Power-Distribution-Switch-DS20006030A.pdf
pins: 1 EN, 2 FLG, 3 GND, 4 NC hidden, 5 NC hidden, 6 OUT hidden, 7 IN, 8 OUT

## MIC2025-1YMM
designator *  value MIC2025-1YMM  Reference: U
ki_keywords: mosfet distribution; ki_description: Single-channel, high side, power distribution switch, 2.7V-5.5V, Active High Output, MSOP-8; ki_fp_filters: MSOP*3x3mm*P0.65mm*; Footprint: Package_SO:MSOP-8_3x3mm_P0.65mm; Datasheet: https://ww1.microchip.com/downloads/en/DeviceDoc/MIC2025-2075-Single-Channel-Power-Distribution-Switch-DS20006030A.pdf
pins: 1 EN, 2 FLG, 3 GND, 4 NC hidden, 5 NC hidden, 6 OUT hidden, 7 IN, 8 OUT

## MIC2025-2YM
designator *  value MIC2025-2YM  Reference: U
ki_keywords: mosfet distribution; ki_description: Single-channel, high side, power distribution switch, 2.7V-5.5V, Active Low Output, SOIC-8; ki_fp_filters: SOIC*3.9x4.9mm*P1.27mm*; Footprint: Package_SO:SOIC-8_3.9x4.9mm_P1.27mm; Datasheet: https://ww1.microchip.com/downloads/en/DeviceDoc/MIC2025-2075-Single-Channel-Power-Distribution-Switch-DS20006030A.pdf
pins: 1 EN, 2 FLG, 3 GND, 4 NC hidden, 5 NC hidden, 6 OUT hidden, 7 IN, 8 OUT

## MIC2025-2YMM
designator *  value MIC2025-2YMM  Reference: U
ki_keywords: mosfet distribution; ki_description: Single-channel, high side, power distribution switch, 2.7V-5.5V, Active Low Output, MSOP-8; ki_fp_filters: MSOP*3x3mm*P0.65mm*; Footprint: Package_SO:MSOP-8_3x3mm_P0.65mm; Datasheet: https://ww1.microchip.com/downloads/en/DeviceDoc/MIC2025-2075-Single-Channel-Power-Distribution-Switch-DS20006030A.pdf
pins: 1 EN, 2 FLG, 3 GND, 4 NC hidden, 5 NC hidden, 6 OUT hidden, 7 IN, 8 OUT

## MIC2026-1BN
designator *  value MIC2026-1BN  Reference: U
ki_keywords: mosfet distribution; ki_description: Dual-channel, high side, power distribution switch, 2.7V-5.5V, Active High Output, DIP-8; ki_fp_filters: DIP*W7.62mm*; Footprint: Package_DIP:DIP-8_W7.62mm; Datasheet: http://ww1.microchip.com/downloads/en/DeviceDoc/mic2026.pdf
pins: 1 ENA, 2 FLGA, 3 FLGB, 4 ENB, 5 OUTB, 6 GND, 7 IN, 8 OUTA

## MIC2026-1xM
designator *  value MIC2026-1xM  Reference: U
ki_keywords: mosfet distribution; ki_description: Dual-channel, high side, power distribution switch, 2.7V-5.5V, Active High Output, SOIC-8; ki_fp_filters: SOIC*3.9x4.9mm*P1.27mm*; Footprint: Package_SO:SOIC-8_3.9x4.9mm_P1.27mm; Datasheet: https://ww1.microchip.com/downloads/aemDocuments/documents/APID/ProductDocuments/DataSheets/MIC2026-MIC2076-Dual-Channel-Power-Distribution-Switch-DS20006443A.pdf
pins: 1 ENA, 2 FLGA, 3 FLGB, 4 ENB, 5 OUTB, 6 GND, 7 IN, 8 OUTA

## MIC2026-2BN
designator *  value MIC2026-2BN  Reference: U
ki_keywords: mosfet distribution; ki_description: Dual-channel, high side, power distribution switch, 2.7V-5.5V, Active Low Output, DIP-8; ki_fp_filters: DIP*W7.62mm*; Footprint: Package_DIP:DIP-8_W7.62mm; Datasheet: http://ww1.microchip.com/downloads/en/DeviceDoc/mic2026.pdf
pins: 1 ENA, 2 FLGA, 3 FLGB, 4 ENB, 5 OUTB, 6 GND, 7 IN, 8 OUTA

## MIC2026-2xM
designator *  value MIC2026-2xM  Reference: U
ki_keywords: mosfet distribution; ki_description: Dual-channel, high side, power distribution switch, 2.7V-5.5V, Active Low Output, SOIC-8; ki_fp_filters: SOIC*3.9x4.9mm*P1.27mm*; Footprint: Package_SO:SOIC-8_3.9x4.9mm_P1.27mm; Datasheet: https://ww1.microchip.com/downloads/aemDocuments/documents/APID/ProductDocuments/DataSheets/MIC2026-MIC2076-Dual-Channel-Power-Distribution-Switch-DS20006443A.pdf
pins: 1 ENA, 2 FLGA, 3 FLGB, 4 ENB, 5 OUTB, 6 GND, 7 IN, 8 OUTA

## MIC2587-1
designator *  value MIC2587-1  Reference: U
ki_keywords: power switch FET driver; ki_description: Positive high voltage hot swap controller +10V to +80V with latched operation; ki_fp_filters: SOIC*3.9x4.9mm*P1.27mm*; Footprint: Package_SO:SOIC-8_3.9x4.9mm_P1.27mm; Datasheet: http://ww1.microchip.com/downloads/en/DeviceDoc/mic2587-87r.pdf
pins: 1 ON, 2 FB, 3 PWRGD, 4 GND, 5 TIMER, 6 GATE, 7 Sense, 8 Vcc

## MIC2587R-1
designator *  value MIC2587R-1  Reference: U
ki_keywords: power switch FET driver; ki_description: Positive high voltage hot swap controller +10V to +80V with auto-retry operation; ki_fp_filters: SOIC*3.9x4.9mm*P1.27mm*; Footprint: Package_SO:SOIC-8_3.9x4.9mm_P1.27mm; Datasheet: http://ww1.microchip.com/downloads/en/DeviceDoc/mic2587-87r.pdf
pins: 1 ON, 2 FB, 3 PWRGD, 4 GND, 5 TIMER, 6 GATE, 7 Sense, 8 Vcc

## NIS5420MTxTXG
designator *  value NIS5420MTxTXG  Reference: U
ki_keywords: 12V efuse resettable fuse; ki_description: ON Semi, +12V Electronic Fuse, 4.6A, WDFN-10; ki_fp_filters: WDFN*1EP*3x3mm*P0.5mm*; Footprint: Package_DFN_QFN:WDFN-10-1EP_3x3mm_P0.5mm_EP1.8x2.5mm; Datasheet: https://www.onsemi.com/pdf/datasheet/nis5420-d.pdf
pins: 1 GND, 2 dV/dt, 3 Enable/Fault, 4 I_{Limit}, 5 I_{SENSE}, 6 Source, 7 Source hidden, 8 Source hidden, 9 Source hidden, 10 Source hidden, 11 V_{CC}

## NPC45560-H
designator *  value NPC45560-H  Reference: U
ki_keywords: load switch; ki_description: Controlled load switch with low Ron, DFN-12; ki_fp_filters: DFN*1EP?3x3mm?P0.5mm*; Footprint: Package_DFN_QFN:DFN-12-1EP_3x3mm_P0.5mm_EP2.05x2.86mm; Datasheet: http://www.onsemi.com/pub/Collateral/NCP45560-D.PDF
pins: 1 VIN, 2 EN, 3 VCC, 4 GND, 5 SR, 6 PG, 7 BLEED, 8 VOUT, 9 VOUT, 10 VOUT, 11 VOUT, 12 VOUT, 13 VIN

## NPC45560-L
designator *  value NPC45560-L  Reference: U
ki_keywords: load switch; ki_description: Controlled load switch with low Ron, DFN-12; ki_fp_filters: *DFN*12*; Footprint: Package_DFN_QFN:DFN-12-1EP_3x3mm_P0.5mm_EP2.05x2.86mm; Datasheet: http://www.onsemi.com/pub/Collateral/NCP45560-D.PDF
pins: 1 VIN, 2 EN, 3 VCC, 4 GND, 5 SR, 6 PG, 7 BLEED, 8 VOUT, 9 VOUT, 10 VOUT, 11 VOUT, 12 VOUT, 13 VIN

## PD70224
designator *  value PD70224  Reference: U
ki_keywords: dual ideal diode bridge; ki_description: Ideal Dual Diode Bridge, QFN-40; ki_fp_filters: Microsemi*QFN*6x8mm*P0.5mm*; Footprint: Package_DFN_QFN:Microsemi_QFN-40-32-2EP_6x8mm_P0.5mm; Datasheet: https://www.microsemi.com/document-portal/doc_download/131677-pd70224-data-sheet
pins: 1, 2 hidden, 3 hidden, 4 IN2B, 5 IN2B hidden, 6 IN2B hidden, 7 IN2B hidden, 8, 9 hidden, 10 hidden, 11 IN2A, 12 IN2A hidden, 13 SUPP_SA, 14 SUPP_SB, 15 IN1A, 16 IN1A hidden, 17 hidden, 18 hidden, 19 hidden, 20 IN1B, 21 IN1B hidden, 22 IN1B hidden, 23 IN1B hidden, 24 hidden, 25 hidden, 26 hidden, 27 IN1A hidden, 28 IN1A hidden, 29 WA_EN, 30 NC hidden, 31 IN2A hidden, 32 IN2A hidden, 33 hidden, 34 hidden

## RT9701
designator *  value RT9701  Reference: U
ki_keywords: power distribution switch; ki_description: 100 milliohm power distribution switch, SOT-25; ki_fp_filters: SOT?23*; Datasheet: https://www.richtek.com/Products/Power%20Switch/RT9701?sc_lang=en
pins: 1 VOUT, 2 GND, 3 VIN, 4 VIN/EN, 5 VOUT hidden

## RT9742AGJ5F
designator *  value RT9742AGJ5F  Reference: U
ki_keywords: Power Switch; ki_description: 3A, Discharge, Active High EN, TSOT-23-5; ki_fp_filters: TSOT?23*; Footprint: Package_TO_SOT_SMD:TSOT-23-5; Datasheet: https://www.richtek.com/assets/product_file/RT9742/DS9742-10.pdf
pins: 1 VOUT, 2 GND, 3 ~{{FLG}}, 4 EN, 5 VIN

## RT9742ANGJ5F
designator *  value RT9742ANGJ5F  Reference: U
ki_keywords: Power Switch; ki_description: 3A, Active High EN, TSOT-23-5; ki_fp_filters: TSOT?23*; Footprint: Package_TO_SOT_SMD:TSOT-23-5; Datasheet: https://www.richtek.com/assets/product_file/RT9742/DS9742-10.pdf
pins: 1 VOUT, 2 GND, 3 ~{{FLG}}, 4 EN, 5 VIN

## RT9742BGJ5F
designator *  value RT9742BGJ5F  Reference: U
ki_keywords: Power Switch; ki_description: 3A, Discharge, Active Low EN, TSOT-23-5; ki_fp_filters: TSOT?23*; Footprint: Package_TO_SOT_SMD:TSOT-23-5; Datasheet: https://www.richtek.com/assets/product_file/RT9742/DS9742-10.pdf
pins: 1 VOUT, 2 GND, 3 ~{{FLG}}, 4 ~{{EN}}, 5 VIN

## RT9742BNGJ5F
designator *  value RT9742BNGJ5F  Reference: U
ki_keywords: Power Switch; ki_description: 3A, Active Low EN, TSOT-23-5; ki_fp_filters: TSOT?23*; Footprint: Package_TO_SOT_SMD:TSOT-23-5; Datasheet: https://www.richtek.com/assets/product_file/RT9742/DS9742-10.pdf
pins: 1 VOUT, 2 GND, 3 ~{{FLG}}, 4 ~{{EN}}, 5 VIN

## SiP32431DR3
designator *  value SiP32431DR3  Reference: U
ki_keywords: Load switch; ki_description: 10 pA, Ultra Low Leakage and Quiescent Current, Load Switch with Reverse Blocking, High Enable, SC-70-6; ki_fp_filters: *SC?70*; Footprint: Package_TO_SOT_SMD:SOT-363_SC-70-6; Datasheet: http://www.vishay.com.hk/docs/66597/sip32431.pdf
pins: 1 OUT, 2 GND, 3 ON, 4 IN, 5 GND hidden, 6 NC hidden

## SiP32432DR3
designator *  value SiP32432DR3  Reference: U
ki_keywords: Load switch; ki_description: 10 pA, Ultra Low Leakage and Quiescent Current, Load Switch with Reverse Blocking, Low Enable, SC-70-6; ki_fp_filters: *SC?70*; Footprint: Package_TO_SOT_SMD:SOT-363_SC-70-6; Datasheet: http://www.vishay.com.hk/docs/66597/sip32431.pdf
pins: 1 OUT, 2 GND, 3 ~{{ON}}, 4 IN, 5 GND hidden, 6 NC hidden

## SN6505ADBV
designator *  value SN6505ADBV  Reference: U
ki_keywords: Transformer Drivers; ki_description: Low Noise, 1A, Transformer Drivers for Isolated Power Supplies, 160 kHz, SOT-23-6; ki_fp_filters: SOT?23*; Footprint: Package_TO_SOT_SMD:SOT-23-6; Datasheet: http://www.ti.com/lit/ds/symlink/sn6505b.pdf
pins: 1 D1, 2 VCC, 3 D2, 4 GND, 5 EN, 6 CLK

## SN6505BDBV
designator *  value SN6505BDBV  Reference: U
ki_keywords: Transformer Drivers; ki_description: Low Noise, 1A, Transformer Drivers for Isolated Power Supplies, 420 kHz, SOT-23-6; ki_fp_filters: SOT?23*; Footprint: Package_TO_SOT_SMD:SOT-23-6; Datasheet: http://www.ti.com/lit/ds/symlink/sn6505b.pdf
pins: 1 D1, 2 VCC, 3 D2, 4 GND, 5 EN, 6 CLK

## SN6507DGQ
designator *  value SN6507DGQ  Reference: U
ki_keywords: Transformer Drivers; ki_description: Low Noise, 0.5A, spread spectrum 36V Push-Pull-Transformer Drivers for Isolated Power Supplies, HVSSOP-10; ki_fp_filters: HVSSOP*3x3mm*P0.5mm*; Footprint: Package_SO:HVSSOP-10-1EP_3x3mm_P0.5mm_EP1.57x1.88mm; Datasheet: http://www.ti.com/lit/ds/symlink/sn6507.pdf
pins: 1 SW1, 2 GND, 3 VCC, 4 EN/UVLO, 5 DC, 6 SR, 7 CLK, 8 SS/ILIM, 9 GND hidden, 10 SW2

## STM6600
designator *  value STM6600  Reference: U
ki_keywords: push-button-controller low-power; ki_description: Smart push-button on/off controller, power-on lockout, Low Power, 1.6-5.5V, TDFN12; ki_fp_filters: TDFN*2x3mm*P0.5mm*; Footprint: Package_DFN_QFN:TDFN-12_2x3mm_P0.5mm; Datasheet: http://www.st.com/resource/en/datasheet/stm6600.pdf
pins: 1 Vcc, 2 ~{{SR}}, 3 Vref, 4 PS_HOLD, 5 C_SRD, 6 ~{{PB}}, 7 ~{{VCC}_LO}, 8 ~{{PB}_OUT}, 9 ~{{EN}/EN}, 10 ~{{RST}}, 11 ~{{INT}}, 12 GND

## STM6601
designator *  value STM6601  Reference: U
ki_keywords: push-button-controller low-power; ki_description: Smart push-button on/off controller, power-on lockout, Low Power, 1.6-5.5V, TDFN12; ki_fp_filters: TDFN*2x3mm*P0.5mm*; Footprint: Package_DFN_QFN:TDFN-12_2x3mm_P0.5mm; Datasheet: http://www.st.com/resource/en/datasheet/stm6600.pdf
pins: 1 Vcc, 2 ~{{SR}}, 3 Vref, 4 PS_HOLD, 5 C_SRD, 6 ~{{PB}}, 7 ~{{VCC}_LO}, 8 ~{{PB}_OUT}, 9 ~{{EN}/EN}, 10 ~{{RST}}, 11 ~{{INT}}, 12 GND

## TEA1708T
designator *  value TEA1708T  Reference: U
ki_keywords: X capacitor discharge; ki_description: GreenChip X capacitor discharge IC, SOIC-8; ki_fp_filters: SOIC*3.9x4.9mm*P1.27mm*; Footprint: Package_SO:SOIC-8_3.9x4.9mm_P1.27mm; Datasheet: https://www.nxp.com/docs/en/data-sheet/TEA1708TDS.pdf
pins: 1 NC hidden, 2 TMR2, 3 NC hidden, 4 TMR1, 5 HV2, 6 NC hidden, 7 NC hidden, 8 HV1

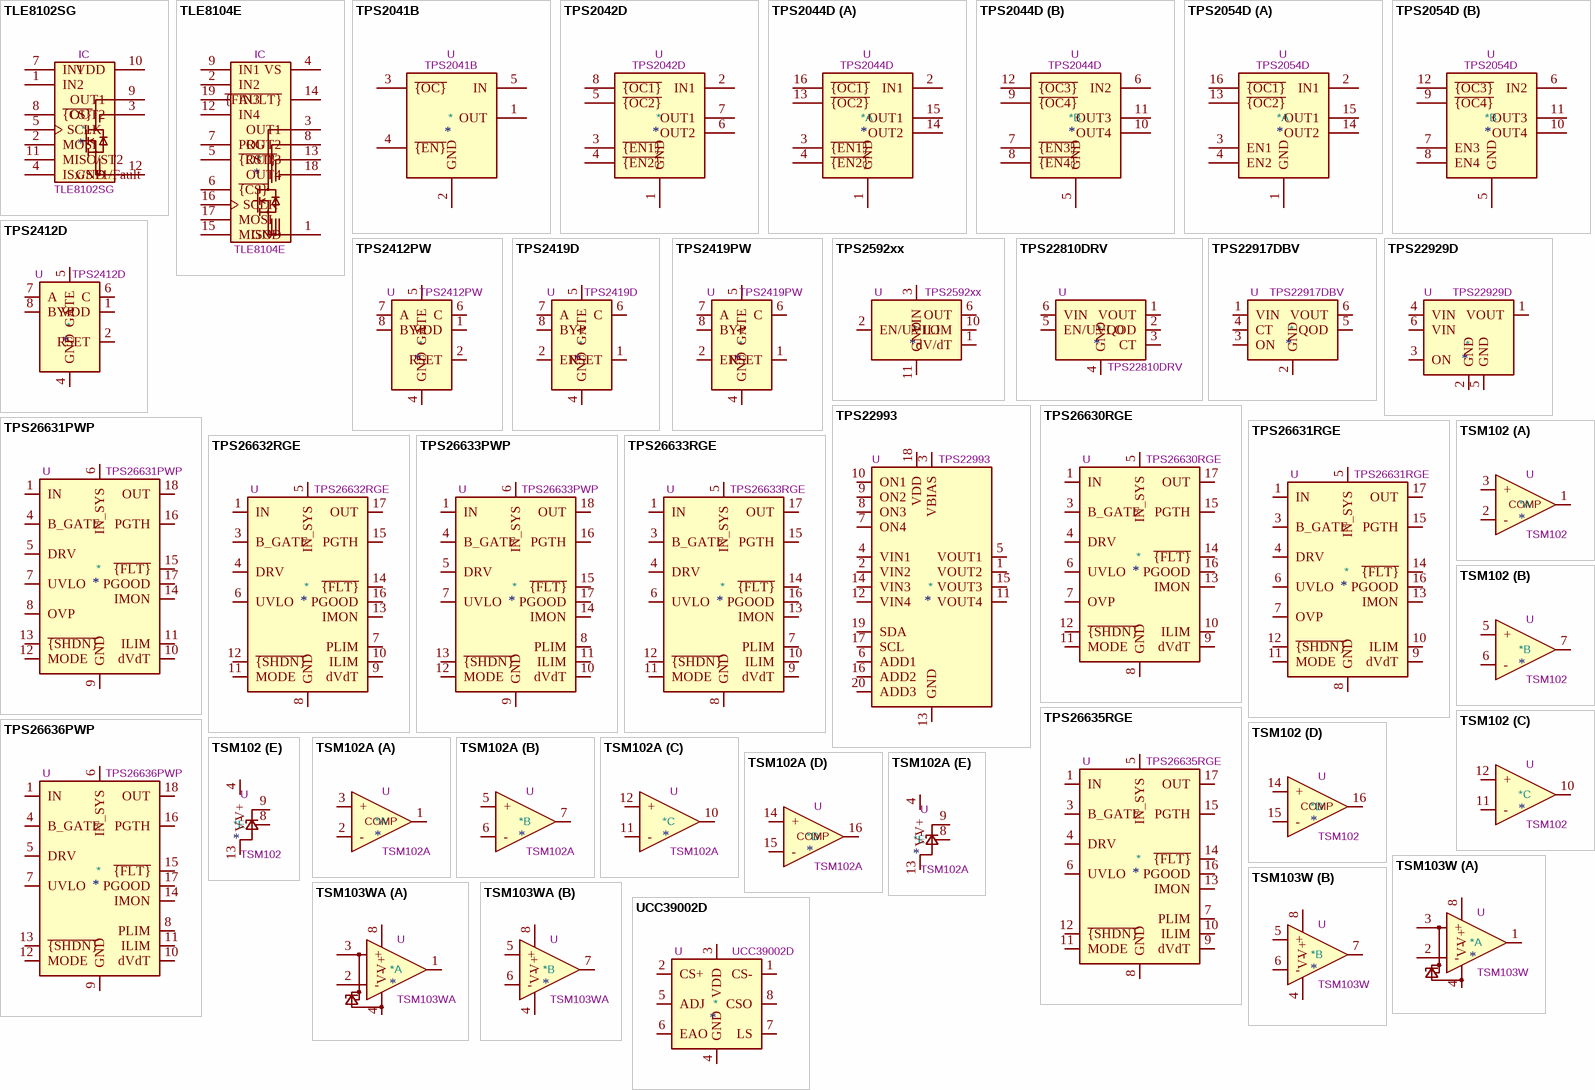
[diagram p5: symbols TLE8102SG to UCC39002D]

## TLE8102SG
designator *  value TLE8102SG  Reference: IC
ki_keywords: Low_Side_Switch Power; ki_description: Smart Dual Channel Powertrain Switch 2x8A (max 360mOhm); ki_fp_filters: *PG?DSO*; Footprint: Package_SO:Infineon_PG-DSO-12-11_ThermalVias; Datasheet: http://www.infineon.com/dgdl/Infineon-TLE8102SG-DS-v01_05-en.pdf?fileId=db3a304319c6f18c0119c8384bf90042
pins: 1 IN2, 2 MOSI, 3 OUT2, 4 ISx/ST1/Fault, 5 SCLK, 6 GND hidden, 7 IN1, 8 ~{{CS}}, 9 OUT1, 10 VDD, 11 MISO/ST2, 12 GND, 13 GND hidden

## TLE8104E
designator *  value TLE8104E  Reference: IC
ki_keywords: Low_Side_Switch Power; ki_description: Smart Quad Channel Powertrain Switch 4x3A (In=1A, Ilim=3A, Ron=320mOhm); ki_fp_filters: *PG?DSO*; Footprint: Package_SO:Infineon_PG-DSO-20-30_ThermalVias; Datasheet: http://www.infineon.com/dgdl/Infineon-TLE8104E-DS-v01_04-en.pdf?fileId=db3a304318f3fe2901190401cfda7f25
pins: 1 GND, 2 IN2, 3 OUT1, 4 VS, 5 ~{{RST}}, 6 ~{{CS}}, 7 PRG, 8 OUT2, 9 IN1, 10 GND hidden, 11 GND hidden, 12 IN4, 13 OUT3, 14 ~{{FAULT}}, 15 MISO, 16 SCLK, 17 MOSI, 18 OUT4, 19 IN3, 20 GND hidden, 21 GND hidden

## TPS2041B
designator *  value TPS2041B  Reference: U
ki_keywords: 1-chanel power-distribution USB; ki_description: Single power-distribution switcher; ki_fp_filters: SOT?23*; Footprint: Package_TO_SOT_SMD:SOT-23-5; Datasheet: http://www.ti.com/lit/ds/symlink/tps2041.pdf
pins: 1 OUT, 2 GND, 3 ~{{OC}}, 4 ~{{EN}}, 5 IN

## TPS2042D
designator *  value TPS2042D  Reference: U
ki_keywords: 2-chanel power-distribution USB; ki_description: Dual power-distribution switcher; ki_fp_filters: SOIC*3.9x4.9mm*1.27mm*; Footprint: Package_SO:SOIC-8_3.9x4.9mm_P1.27mm; Datasheet: http://www.ti.com/lit/ds/symlink/tps2042.pdf
pins: 1 GND, 2 IN1, 3 ~{{EN1}}, 4 ~{{EN2}}, 5 ~{{OC2}}, 6 OUT2, 7 OUT1, 8 ~{{OC1}}

## TPS2044D
designator *  value TPS2044D  Reference: U
ki_keywords: 4-chanel power-distribution USB; ki_description: Quad power-distribution switcher; ki_fp_filters: SOIC*3.9x9.9mm*1.27mm*; Footprint: Package_SO:SOIC-16_3.9x9.9mm_P1.27mm; Datasheet: http://www.ti.com/lit/ds/symlink/tps2044.pdf
part A pins: 1 GND, 2 IN1, 3 ~{{EN1}}, 4 ~{{EN2}}, 13 ~{{OC2}}, 14 OUT2, 15 OUT1, 16 ~{{OC1}}
part B pins: 5 GND, 6 IN2, 7 ~{{EN3}}, 8 ~{{EN4}}, 9 ~{{OC4}}, 10 OUT4, 11 OUT3, 12 ~{{OC3}}

## TPS2054D
designator *  value TPS2054D  Reference: U
ki_keywords: 4-chanel power-distribution USB; ki_description: Quad power-distribution switcher; ki_fp_filters: SOIC*3.9x9.9mm*1.27mm*; Footprint: Package_SO:SOIC-16_3.9x9.9mm_P1.27mm; Datasheet: http://www.ti.com/lit/ds/symlink/tps2044.pdf
part A pins: 1 GND, 2 IN1, 3 EN1, 4 EN2, 13 ~{{OC2}}, 14 OUT2, 15 OUT1, 16 ~{{OC1}}
part B pins: 5 GND, 6 IN2, 7 EN3, 8 EN4, 9 ~{{OC4}}, 10 OUT4, 11 OUT3, 12 ~{{OC3}}

## TPS2412D
designator *  value TPS2412D  Reference: U
ki_keywords: ideal-diode or-ing; ki_description: N+1 and ORing Power Rail Controller, SOIC-8; ki_fp_filters: TSSOP*4.4x3mm*P0.65mm* SOIC*3.9x4.9mm*P1.27mm*; Datasheet: http://www.ti.com/lit/ds/symlink/tps2412.pdf
pins: 1 VDD, 2 RSET, 3 GND hidden, 4 GND, 5 GATE, 6 C, 7 A, 8 BYP

## TPS2412PW
designator *  value TPS2412PW  Reference: U
ki_keywords: ideal-diode or-ing; ki_description: N+1 and ORing Power Rail Controller, TSSOP-8; ki_fp_filters: TSSOP*4.4x3mm*P0.65mm* SOIC*3.9x4.9mm*P1.27mm*; Datasheet: http://www.ti.com/lit/ds/symlink/tps2412.pdf
pins: 1 VDD, 2 RSET, 3 GND hidden, 4 GND, 5 GATE, 6 C, 7 A, 8 BYP

## TPS2419D
designator *  value TPS2419D  Reference: U
ki_keywords: ideal-diode or-ing; ki_description: N+1 and ORing Power Rail Controller with Enable, SOIC-8; ki_fp_filters: TSSOP*4.4x3mm*P0.65mm* SOIC*3.9x4.9mm*P1.27mm*; Datasheet: http://www.ti.com/lit/ds/symlink/tps2419.pdf
pins: 1 RSET, 2 EN, 3 GND hidden, 4 GND, 5 GATE, 6 C, 7 A, 8 BYP

## TPS2419PW
designator *  value TPS2419PW  Reference: U
ki_keywords: ideal-diode or-ing; ki_description: N+1 and ORing Power Rail Controller with Enable, TSSOP-8; ki_fp_filters: TSSOP*4.4x3mm*P0.65mm* SOIC*3.9x4.9mm*P1.27mm*; Datasheet: http://www.ti.com/lit/ds/symlink/tps2419.pdf
pins: 1 RSET, 2 EN, 3 GND hidden, 4 GND, 5 GATE, 6 C, 7 A, 8 BYP

## TPS2592xx
designator *  value TPS2592xx  Reference: U
ki_keywords: efuse protection switch; ki_description: 5V/12V eFuse Protection Switch (VSON-10); ki_fp_filters: VSON*1EP*3x3mm*P0.5mm*; Footprint: Package_SON:VSON-10-1EP_3x3mm_P0.5mm_EP1.65x2.4mm_ThermalVias; Datasheet: http://www.ti.com/lit/ds/symlink/tps25925.pdf
pins: 1 dV/dT, 2 EN/UVLO, 3 VIN, 4 VIN hidden, 5 VIN hidden, 6 OUT, 7 OUT hidden, 8 OUT hidden, 9 NC hidden, 10 ILIM, 11 GND

## TPS22810DRV
designator *  value TPS22810DRV  Reference: U
ki_keywords: load switch thermal protection; ki_description: 2.7-18V, 79mohms On-Resistance Load Switch With Thermal Protection, WSON-6; ki_fp_filters: WSON*1EP*2x2mm*P0.65mm*; Footprint: Package_SON:WSON-6-1EP_2x2mm_P0.65mm_EP1x1.6mm; Datasheet: http://www.ti.com/lit/ds/symlink/tps22810.pdf
pins: 1 VOUT, 2 QOD, 3 CT, 4 GND, 5 EN/UVLO, 6 VIN, 7 GND hidden

## TPS22917DBV
designator *  value TPS22917DBV  Reference: U
ki_keywords: high-side power distribution switch; ki_description: 1V to 5.5V, 2A, 80mΩ Ultra-Low Leakage Load Switch, SOT23-6; ki_fp_filters: SOT?23*; Footprint: Package_TO_SOT_SMD:SOT-23-6; Datasheet: http://www.ti.com/lit/ds/symlink/tps22917.pdf
pins: 1 VIN, 2 GND, 3 ON, 4 CT, 5 QOD, 6 VOUT

## TPS22929D
designator *  value TPS22929D  Reference: U
ki_keywords: high-side power distribution switch; ki_description: High side, power distribution switch, 1.4V-5.5V, 1.8A, SOT23-6 package; ki_fp_filters: SOT?23*; Footprint: Package_TO_SOT_SMD:SOT-23-6; Datasheet: http://www.ti.com/lit/ds/symlink/tps22929d.pdf
pins: 1 VOUT, 2 GND, 3 ON, 4 VIN, 5 GND, 6 VIN

## TPS22993
designator *  value TPS22993  Reference: U
ki_keywords: quad channel power distribution/load switch; ki_description: Quad Channel Load Switch with GPIO and I2C Control, Bias voltage: 4.5V-17.2V, Input voltage: 1.0V-3.6V, Max 1.2A per channel, WQFN-20; ki_fp_filters: Texas*PWQFN*; Footprint: Package_DFN_QFN:Texas_S-PWQFN-N20; Datasheet: http://www.ti.com/lit/gpn/tps22993
pins: 1 VOUT2, 2 VIN2, 3 VBIAS, 4 VIN1, 5 VOUT1, 6 ADD1, 7 ON4, 8 ON3, 9 ON2, 10 ON1, 11 VOUT4, 12 VIN4, 13 GND, 14 VIN3, 15 VOUT3, 16 ADD2, 17 SCL, 18 VDD, 19 SDA, 20 ADD3

## TPS26630RGE
designator *  value TPS26630RGE  Reference: U
ki_keywords: efuse protection switch; ki_description: 60V, 6A Power Limiting, Surge Protection Industrial eFuse, Adjustable Overvoltage cut-off, Active Current Limiting, VQFN-24; ki_fp_filters: Texas?RGE0024H*; Footprint: Package_DFN_QFN:Texas_RGE0024H_EP2.7x2.7mm_ThermalVias; Datasheet: https://www.ti.com/lit/ds/symlink/tps2663.pdf
pins: 1 IN, 2 IN hidden, 3 B_GATE, 4 DRV, 5 IN_SYS, 6 UVLO, 7 OVP, 8 GND, 9 dVdT, 10 ILIM, 11 MODE, 12 ~{{SHDN}}, 13 IMON, 14 ~{{FLT}}, 15 PGTH, 16 PGOOD, 17 OUT, 18 OUT hidden, 19 NC hidden, 20 NC hidden, 21 NC hidden, 22 NC hidden, 23 NC hidden, 24 NC hidden, 25 GND hidden

## TPS26631PWP
designator *  value TPS26631PWP  Reference: U
ki_keywords: efuse protection switch; ki_description: 60V, 6A Power Limiting, Surge Protection Industrial eFuse, Adjustable Overvoltage cut-off, Active Current Limiting with Pulse current support, HTTSOP-20; ki_fp_filters: HTSSOP*1EP*4.4x6.5mm*P0.65mm*; Footprint: Package_SO:HTSSOP-20-1EP_4.4x6.5mm_P0.65mm_EP3.4x6.5mm_Mask2.96x2.96mm_ThermalVias; Datasheet: https://www.ti.com/lit/ds/symlink/tps2663.pdf
pins: 1 IN, 2 IN hidden, 3 IN hidden, 4 B_GATE, 5 DRV, 6 IN_SYS, 7 UVLO, 8 OVP, 9 GND, 10 dVdT, 11 ILIM, 12 MODE, 13 ~{{SHDN}}, 14 IMON, 15 ~{{FLT}}, 16 PGTH, 17 PGOOD, 18 OUT, 19 OUT hidden, 20 OUT hidden, 21 GND hidden

## TPS26631RGE
designator *  value TPS26631RGE  Reference: U
ki_keywords: efuse protection switch; ki_description: 60V, 6A Power Limiting, Surge Protection Industrial eFuse, Adjustable Overvoltage cut-off, Active Current Limiting with Pulse current support, VQFN-24; ki_fp_filters: Texas?RGE0024H*; Footprint: Package_DFN_QFN:Texas_RGE0024H_EP2.7x2.7mm_ThermalVias; Datasheet: https://www.ti.com/lit/ds/symlink/tps2663.pdf
pins: 1 IN, 2 IN hidden, 3 B_GATE, 4 DRV, 5 IN_SYS, 6 UVLO, 7 OVP, 8 GND, 9 dVdT, 10 ILIM, 11 MODE, 12 ~{{SHDN}}, 13 IMON, 14 ~{{FLT}}, 15 PGTH, 16 PGOOD, 17 OUT, 18 OUT hidden, 19 NC hidden, 20 NC hidden, 21 NC hidden, 22 NC hidden, 23 NC hidden, 24 NC hidden, 25 GND hidden

## TPS26632RGE
designator *  value TPS26632RGE  Reference: U
ki_keywords: efuse protection switch; ki_description: 60V, 6A Power Limiting, Surge Protection Industrial eFuse, 35V fixed Overvoltage clamp, Active Current Limiting, VQFN-24; ki_fp_filters: Texas?RGE0024H*; Footprint: Package_DFN_QFN:Texas_RGE0024H_EP2.7x2.7mm_ThermalVias; Datasheet: https://www.ti.com/lit/ds/symlink/tps2663.pdf
pins: 1 IN, 2 IN hidden, 3 B_GATE, 4 DRV, 5 IN_SYS, 6 UVLO, 7 PLIM, 8 GND, 9 dVdT, 10 ILIM, 11 MODE, 12 ~{{SHDN}}, 13 IMON, 14 ~{{FLT}}, 15 PGTH, 16 PGOOD, 17 OUT, 18 OUT hidden, 19 NC hidden, 20 NC hidden, 21 NC hidden, 22 NC hidden, 23 NC hidden, 24 NC hidden, 25 GND hidden

## TPS26633PWP
designator *  value TPS26633PWP  Reference: U
ki_keywords: efuse protection switch; ki_description: 60V, 6A Power Limiting, Surge Protection Industrial eFuse, 35V fixed Overvoltage clamp, Active Current Limiting with Pulse current support, HTTSOP-20; ki_fp_filters: HTSSOP*1EP*4.4x6.5mm*P0.65mm*; Footprint: Package_SO:HTSSOP-20-1EP_4.4x6.5mm_P0.65mm_EP3.4x6.5mm_Mask2.96x2.96mm_ThermalVias; Datasheet: https://www.ti.com/lit/ds/symlink/tps2663.pdf
pins: 1 IN, 2 IN hidden, 3 IN hidden, 4 B_GATE, 5 DRV, 6 IN_SYS, 7 UVLO, 8 PLIM, 9 GND, 10 dVdT, 11 ILIM, 12 MODE, 13 ~{{SHDN}}, 14 IMON, 15 ~{{FLT}}, 16 PGTH, 17 PGOOD, 18 OUT, 19 OUT hidden, 20 OUT hidden, 21 GND hidden

## TPS26633RGE
designator *  value TPS26633RGE  Reference: U
ki_keywords: efuse protection switch; ki_description: 60V, 6A Power Limiting, Surge Protection Industrial eFuse, 35V fixed Overvoltage clamp, Active Current Limiting with Pulse current support, VQFN-24; ki_fp_filters: Texas?RGE0024H*; Footprint: Package_DFN_QFN:Texas_RGE0024H_EP2.7x2.7mm_ThermalVias; Datasheet: https://www.ti.com/lit/ds/symlink/tps2663.pdf
pins: 1 IN, 2 IN hidden, 3 B_GATE, 4 DRV, 5 IN_SYS, 6 UVLO, 7 PLIM, 8 GND, 9 dVdT, 10 ILIM, 11 MODE, 12 ~{{SHDN}}, 13 IMON, 14 ~{{FLT}}, 15 PGTH, 16 PGOOD, 17 OUT, 18 OUT hidden, 19 NC hidden, 20 NC hidden, 21 NC hidden, 22 NC hidden, 23 NC hidden, 24 NC hidden, 25 GND hidden

## TPS26635RGE
designator *  value TPS26635RGE  Reference: U
ki_keywords: efuse protection switch; ki_description: 60V, 6A Power Limiting, Surge Protection Industrial eFuse, 39V fixed Overvoltage clamp, Active Current Limiting with Pulse current support, VQFN-24; ki_fp_filters: Texas?RGE0024H*; Footprint: Package_DFN_QFN:Texas_RGE0024H_EP2.7x2.7mm_ThermalVias; Datasheet: https://www.ti.com/lit/ds/symlink/tps2663.pdf
pins: 1 IN, 2 IN hidden, 3 B_GATE, 4 DRV, 5 IN_SYS, 6 UVLO, 7 PLIM, 8 GND, 9 dVdT, 10 ILIM, 11 MODE, 12 ~{{SHDN}}, 13 IMON, 14 ~{{FLT}}, 15 PGTH, 16 PGOOD, 17 OUT, 18 OUT hidden, 19 NC hidden, 20 NC hidden, 21 NC hidden, 22 NC hidden, 23 NC hidden, 24 NC hidden, 25 GND hidden

## TPS26636PWP
designator *  value TPS26636PWP  Reference: U
ki_keywords: efuse protection switch; ki_description: 60V, 6A Power Limiting, Surge Protection Industrial eFuse, 35V fixed Overvoltage clamp, Active Current Limiting with Pulse current support, HTTSOP-20; ki_fp_filters: HTSSOP*1EP*4.4x6.5mm*P0.65mm*; Footprint: Package_SO:HTSSOP-20-1EP_4.4x6.5mm_P0.65mm_EP3.4x6.5mm_Mask2.96x2.96mm_ThermalVias; Datasheet: https://www.ti.com/lit/ds/symlink/tps2663.pdf
pins: 1 IN, 2 IN hidden, 3 IN hidden, 4 B_GATE, 5 DRV, 6 IN_SYS, 7 UVLO, 8 PLIM, 9 GND, 10 dVdT, 11 ILIM, 12 MODE, 13 ~{{SHDN}}, 14 IMON, 15 ~{{FLT}}, 16 PGTH, 17 PGOOD, 18 OUT, 19 OUT hidden, 20 OUT hidden, 21 GND hidden

## TSM102
designator *  value TSM102  Reference: U
ki_keywords: dual opamp comparator reference; ki_description: Dual Operational Amplifier and Dual Comparator and 1% Voltage Reference, SOIC-16; ki_fp_filters: SOIC*3.9x9.9mm*P1.27mm*; Footprint: Package_SO:SOIC-16_3.9x9.9mm_P1.27mm; Datasheet: http://www.st.com/resource/en/datasheet/tsm102.pdf
part A pins: 1, 2 -, 3 +
part B pins: 5 +, 6 -, 7
part C pins: 10, 11 -, 12 +
part D pins: 14 +, 15 -, 16
part E pins: 4 V+, 8, 9, 13 V-
part A text: COMP
part D text: COMP

## TSM102A
designator *  value TSM102A  Reference: U
ki_keywords: dual opamp comparator reference; ki_description: Dual Operational Amplifier and Dual Comparator and 0.4% Voltage Reference, SOIC-16; ki_fp_filters: SOIC*3.9x9.9mm*P1.27mm*; Footprint: Package_SO:SOIC-16_3.9x9.9mm_P1.27mm; Datasheet: http://www.st.com/resource/en/datasheet/tsm102.pdf
part A pins: 1, 2 -, 3 +
part B pins: 5 +, 6 -, 7
part C pins: 10, 11 -, 12 +
part D pins: 14 +, 15 -, 16
part E pins: 4 V+, 8, 9, 13 V-
part A text: COMP
part D text: COMP

## TSM103W
designator *  value TSM103W  Reference: U
ki_keywords: dual opamp reference; ki_description: Dual Operational Amplifier and 2.5V 1% Voltage Reference, SOIC-8; ki_fp_filters: SOIC*3.9x4.9mm*P1.27mm*; Footprint: Package_SO:SOIC-8_3.9x4.9mm_P1.27mm; Datasheet: http://www.st.com/resource/en/datasheet/tsm103w.pdf
part A pins: 1, 2 -, 3 +, 4 V-, 8 V+
part B pins: 4 V-, 5 +, 6 -, 7, 8 V+

## TSM103WA
designator *  value TSM103WA  Reference: U
ki_keywords: dual opamp reference; ki_description: Dual Operational Amplifier and 2.5V 0.4% Voltage Reference, SOIC-8; ki_fp_filters: SOIC*3.9x4.9mm*P1.27mm*; Footprint: Package_SO:SOIC-8_3.9x4.9mm_P1.27mm; Datasheet: http://www.st.com/resource/en/datasheet/tsm103w.pdf
part A pins: 1, 2 -, 3 +, 4 V-, 8 V+
part B pins: 4 V-, 5 +, 6 -, 7, 8 V+

## UCC39002D
designator *  value UCC39002D  Reference: U
ki_keywords: load share controller; ki_description: Advanced 8-Pin Load-Share Controller, SOIC-8; ki_fp_filters: SOIC*3.9x4.9mm*P1.27mm*; Footprint: Package_SO:SOIC-8_3.9x4.9mm_P1.27mm; Datasheet: http://www.ti.com/lit/ds/slus495i/slus495i.pdf
pins: 1 CS-, 2 CS+, 3 VDD, 4 GND, 5 ADJ, 6 EAO, 7 LS, 8 CSO